# EAGLE library part SHT21 (library Sensor)
SENSOR HUMID/TEMP 3V I2C 2% SMD
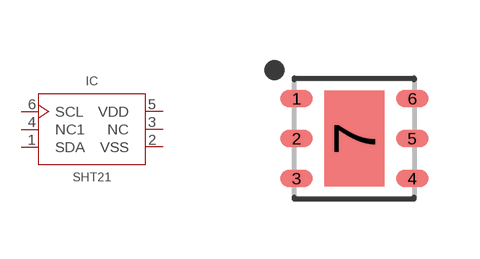
[diagram p3: symbol with the pads of SON100P300X300X110-7T150X240N; footprint SON100P300X300X110-7T150X240N]

Designator prefix IC

## SHT21DFN (CATEGORY: Sensor; MANUFACTURER: Sensirion AG; MPN: SHT-21; OPERATING_TEMP: -40 to 125 °C; PART_STATUS: Active; ROHS_COMPLIANT: RoHS3 Compliant; SUB-CATEGORY: Humidity; THERMALLOSS: 3.2 µW)  [SON100P300X300X110-7T150X240N]
1  SDA
2  VSS  pwr
3  NC  pas
4  NC1  pas
5  VDD  pwr
6  SCL  in

## Footprint SON100P300X300X110-7T150X240N (pad centres in mm)
6-SON (DFN), 1.00 mm pitch, 3.00 X 3.00 X 1.10 mm body, 2.40 X 1.50 mm thermal pad 6-pin SON (DFN) package with 1.00 mm pitch with body size 3.00 X 3.00 X 1.10 mm and thermal pad size 2.40 X 1.50 mm
smd 0.812 x 0.432: 1 -1.45,1; 2 -1.45,0; 3 -1.45,-1; 4 1.45,-1; 5 1.45,0; 6 1.45,1
smd 1.5 x 2.4: 7 0,0